# Altium schematic symbol library ANT.SchLib: 1 symbol
Pins are listed as number, name and electrical type; pins without a type are passive.

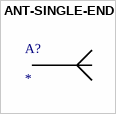
[diagram p0: symbol ANT-SINGLE-END]

## ANT-SINGLE-END
designator A?
pins: 1